# Altium schematic symbol library lib1.SchLib: 2 symbols
Pins are listed as number, name and electrical type; pins without a type are passive.

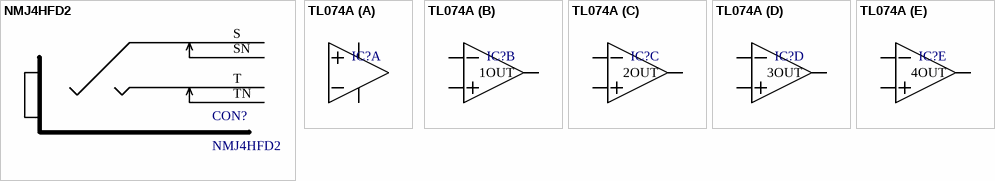
[diagram p0: symbols NMJ4HFD2 to TL074A]

## NMJ4HFD2
designator CON?
1/4" jack connector; helpURL: http://www.neutrik.com/en/audio/plugs-and-jacks/m-series/nmj4hfd2; Supplier 1: Farnell; Supplier 2: Mouser; Supplier 3: Newark; Supplier 4: Allied Electronics; Supplier Part Number 1: 4169244; Supplier Part Number 2: 550-10201; Supplier Part Number 3: 14J4924; Supplier Part Number 4: 70549221
footprint NMJ4HFD2
pins: S, SN, T, TN

## TL074A
designator IC?  (value not drawn)
TL074A Op-Amp; helpURL: http://www.ti.com/general/docs/lit/getliterature.tsp?genericPartNumber=tl074&fileType=pdf; Supplier 1: Digi-Key; Supplier 2: Farnell; Supplier 3: Mouser; Supplier 4: Newark; Supplier 5: Arrow; Supplier 6: Arrow; Supplier 7: Newark; Supplier Part Number 1: 296-14998-1-ND; Supplier Part Number 2: 9593349; Supplier Part Number 3: 595-TL074ACDR; Supplier Part Number 4: 98K1644; Supplier Part Number 5: TL074ACDR; Supplier Part Number 6: TL074ACDR**MULT1; Supplier Part Number 7: 85X7487
footprint TL074A
part A pins: 4 VCC+, 11 VCC-
part B pins: 1 1OUT, 2 1IN-, 3 1IN+
part C pins: 5 2IN+, 6 2IN-, 7 2OUT
part D pins: 8 3OUT, 9 3IN-, 10 3IN+
part E pins: 12 4IN+, 13 4IN-, 14 4OUT